# EAGLE library part HIROSE-FH23-45S-0.3SHW (library Traficon)
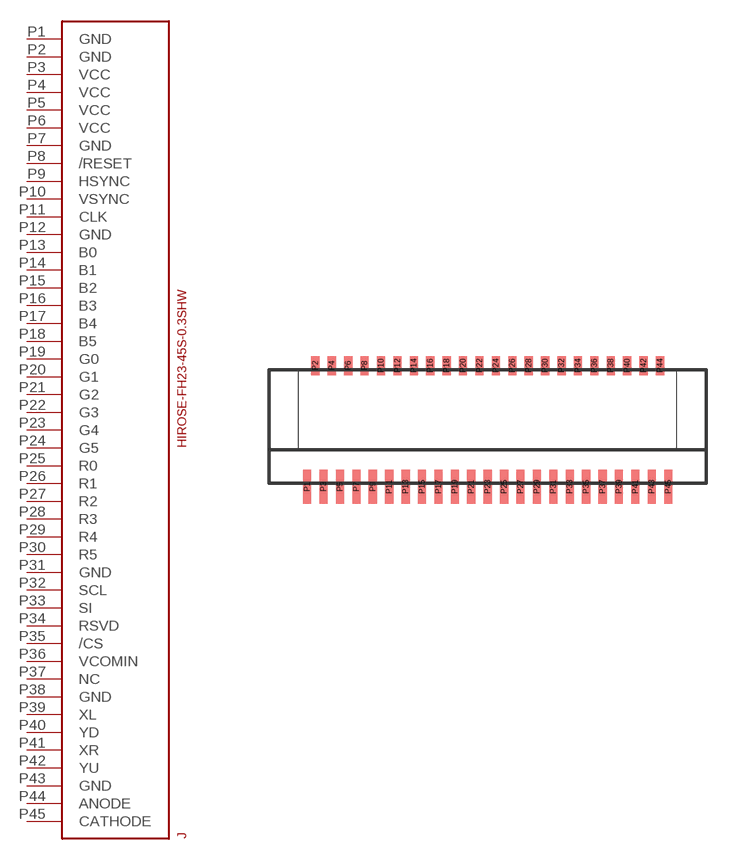
[diagram p130: symbol with the pads of 45PINS-FPC-CONNECTOR; footprint 45PINS-FPC-CONNECTOR]

Designator prefix J

## HIROSE-FH23-45S-0.3SHW  [45PINS-FPC-CONNECTOR]
P1  GND  pwr
P2  GND  pwr
P3  VCC  pwr
P4  VCC  pwr
P5  VCC  pwr
P6  VCC  pwr
P7  GND  pwr
P8  /RESET  in
P9  HSYNC  in
P10  VSYNC  in
P11  CLK  in
P12  GND  pwr
P13  B0  in
P14  B1  in
P15  B2  in
P16  B3  in
P17  B4  in
P18  B5  in
P19  G0  in
P20  G1  in
P21  G2  in
P22  G3  in
P23  G4  in
P24  G5  in
P25  R0  in
P26  R1  in
P27  R2  in
P28  R3  in
P29  R4  in
P30  R5  in
P31  GND  pwr
P32  SCL  in
P33  SI
P34  RSVD  pas
P35  /CS  in
P36  VCOMIN  in
P37  NC  nc
P38  GND  pwr
P39  XL  in
P40  YD  in
P41  XR  in
P42  YU  in
P43  GND  pwr
P44  ANODE  in
P45  CATHODE  in

## Footprint 45PINS-FPC-CONNECTOR (pad centres in mm)
smd 0.3 x 1.25: P1 -6.6,-2.35; P3 -6,-2.35; P5 -5.4,-2.35; P7 -4.8,-2.35; P9 -4.2,-2.35; P11 -3.6,-2.35; P13 -3,-2.35; P15 -2.4,-2.35; P17 -1.8,-2.35; P19 -1.2,-2.35; P21 -0.6,-2.35; P23 0,-2.35; P25 0.6,-2.35; P27 1.2,-2.35; P29 1.8,-2.35; P31 2.4,-2.35; P33 3,-2.35; P35 3.6,-2.35; P37 4.2,-2.35; P39 4.8,-2.35; P41 5.4,-2.35; P43 6,-2.35; P45 6.6,-2.35
smd 0.3 x 0.7: P2 -6.3,2.075; P4 -5.7,2.075; P6 -5.1,2.075; P8 -4.5,2.075; P10 -3.9,2.075; P12 -3.3,2.075; P14 -2.7,2.075; P16 -2.1,2.075; P18 -1.5,2.075; P20 -0.9,2.075; P22 -0.3,2.075; P24 0.3,2.075; P26 0.9,2.075; P28 1.5,2.075; P30 2.1,2.075; P32 2.7,2.075; P34 3.3,2.075; P36 3.9,2.075; P38 4.5,2.075; P40 5.1,2.075; P42 5.7,2.075; P44 6.3,2.075